# EAGLE library part MICS-2614 (library Soliband)
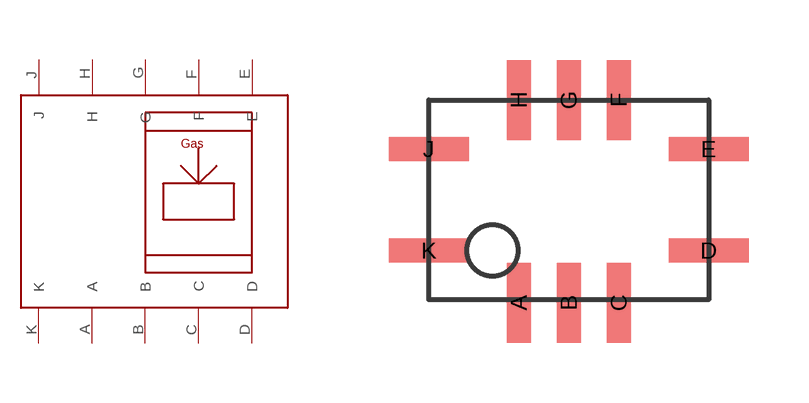
[diagram p4: symbol with the pads of MICS-2614; footprint MICS-2614]

Designator prefix -

## MICS-2614  [MICS-2614]
A  A
B  B
C  C
D  D
E  E
F  F
G  G
H  H
J  J
K  K

## Footprint MICS-2614 (pad centres in mm)
smd 0.6 x 2: A -1.25,-2.58; B 0,-2.58; C 1.25,-2.58; F 1.25,2.5; G 0,2.5; H -1.25,2.5
smd 2 x 0.6: D 3.5,-1.27; E 3.5,1.27; J -3.5,1.27; K -3.5,-1.27